# EAGLE library part МПШН10ххВОВ (library dc-dc)
ЖБКП.436634.009 ТУ МПШВ1005ВОВ - DC/DC преобразователи мощностью 10Вт. Производитель АО "НПП "ЭлТом", Московская область, Люберецкий район, пос. Томилино. Технические условия: ЖБКП.436634.009 ТУ
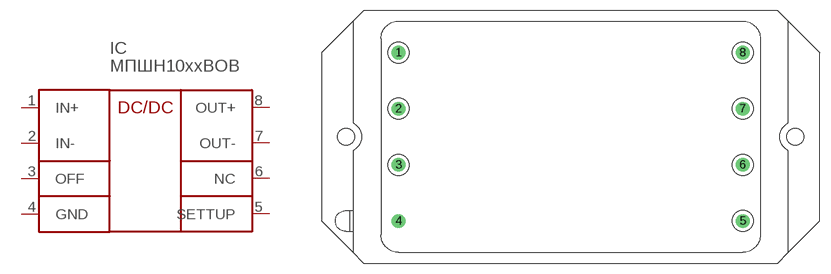
[diagram p0: symbol with the pads of МПШН10ВОВ; footprint МПШН10ВОВ]

Designator prefix IC

## МПШН10ххВОВ  [МПШН10ВОВ]
1  IN+  pwr
2  IN-  pwr
3  OFF  pwr
4  GND  pwr
5  SETTUP  pwr
6  NC  pwr
7  OUT-  pwr
8  OUT+  pwr

## Footprint МПШН10ВОВ (pad centres in mm)
drill 1.3: 1 -24.5,12; 2 -24.5,4; 3 -24.5,-4; 4 -24.5,-12; 5 24.5,-12; 6 24.5,-4; 7 24.5,4; 8 24.5,12